# Altium footprint library Header.PcbLib: 1 footprints
Each footprint in its own frame and in the unit in brackets; x right, y up, seen from the top. Pads: shape width x height; smd on the part's side, far side on the other; paste and mask are expansions set on the pad; w line width, h text height; cw(c..) or ccw(c..) is an arc to the next point about the centre after c.
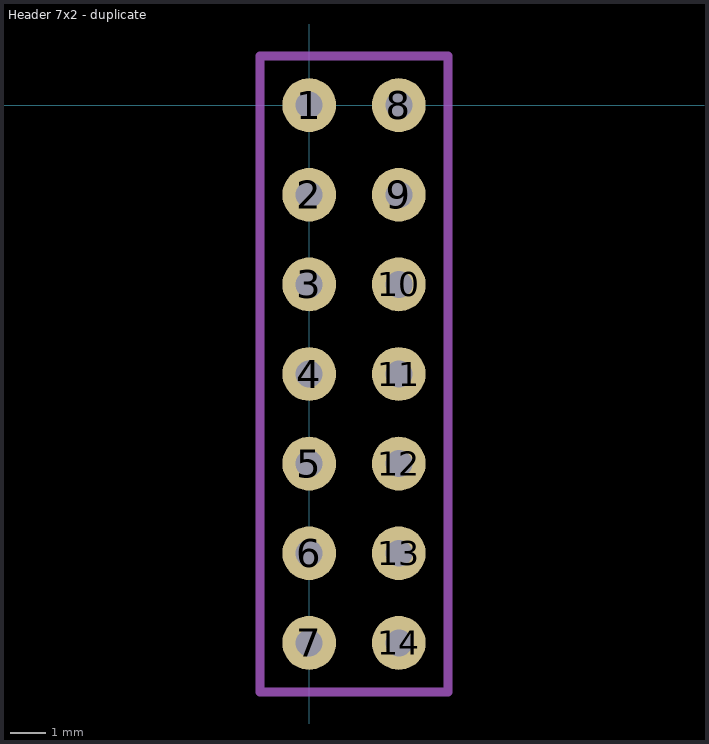
[diagram p0: the footprint, top view; thin cyan lines are the x and y axes]

## Header 7x2 - duplicate [mil] "Header 7x2 Connector"
pads (14):
  round 60 hole 30: 1(0,0) 2(0,-100) 3(0,-200) 4(0,-300) 5(0,-400) 6(0,-500) 7(0,-600) 8(100,0) 9(100,-100) 10(100,-200) 11(100,-300) 12(100,-400) 13(100,-500) 14(100,-600)
Mechanical 1:
  lines w10: -55,-655 -55,55 155,55 155,-655 -55,-655
3D body "BPDC-14.stp": height 454.28, standoff -0.05, extent -50,-650 150,50